# Altium schematic symbol library Mic2.Schlib: 1 symbol
Pins are listed as number, name and electrical type; pins without a type are passive.

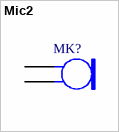
[diagram p0: symbol Mic2]

## Mic2
designator MK?
Microphone
pins: 1, 2